# Altium schematic symbol library ERA6ARB332V.SchLib: 6 symbols
Pins are listed as number, name and electrical type; pins without a type are passive.

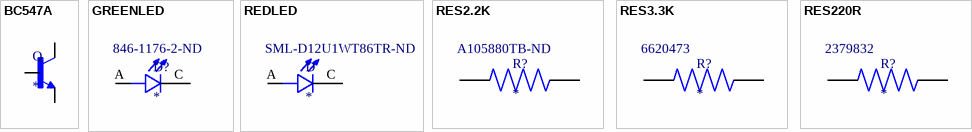
[diagram p0: symbols BC547A to RES220R]

## BC547A
designator Q
Bipolar _BJT_ Transistor NPN 45V 100mA 300MHz 500mW Through Hole TO-92-3; MP: BC547A; MF: ON Semiconductor; Value: *; Package: TO-92 NXP Semiconductors; SnapEDA_Link: https://www.snapeda.com/parts/BC547A/ON%20Semiconductor/view-part/805861/?ref=snap; Price: None; Availability: Unavailable
footprint TO92260P520H877-3
pins: 1 C, 2 B, 3 E

## GREENLED
designator D?  Supplier Part Number 1: 846-1176-2-ND
Green 565nm LED Indication - Discrete 2.2V 0603 (1608 Metric); MF: Rohm; MP: SML-D12FWT86; Check_prices: https://www.snapeda.com/parts/SML-D12FWT86/Rohm/view-part/2753923/?ref=eda; Package: 0603 Rohm; Price: None; Value: *; SnapEDA_Link: https://www.snapeda.com/parts/SML-D12FWT86/Rohm/view-part/2753923/?ref=snap; Availability: Good; Purchase-URL: https://pricing.snapeda.com/search/part/SML-D12FWT86/?ref=eda; Supplier 1: Digi-Key
footprint LED_GREEN
pins: A, C

## REDLED
designator D  Supplier Part Number 1: SML-D12U1WT86TR-ND
Red 620nm LED Indication - Discrete 2.2V 0603 _1608 Metric_; MP: SML-D12U1WT86; MF: Rohm; Package: 0603 Rohm; Price: None; Availability: Unavailable; SnapEDA_Link: https://www.snapeda.com/parts/SML-D12U1WT86/Rohm/view-part/481503/?ref=snap; Value: *; Supplier 1: Digi-Key
footprint LED_RED
pins: A, C

## RES2.2K
designator R?  Supplier Part Number 1: A105880TB-ND
RES 2.2K OHM 0.1% 1/8W 0805; MF: Panasonic; MP: ERA-6APB222V; Value: *; Check_prices: https://www.snapeda.com/parts/ERA-6APB222V/Panasonic/view-part/3718729/?ref=eda; Availability: In Stock; Package: 2012-2 Panasonic; SnapEDA_Link: https://www.snapeda.com/parts/ERA-6APB222V/Panasonic/view-part/3718729/?ref=snap; Price: None; Supplier 1: Digi-Key
footprint RES_2.2K
footprint RES2.2K
pins: 1, 2

## RES3.3K
designator R?  Supplier Part Number 1: 6620473
RES 3.3K OHM 0.1% 1/8W 0805; MF: Panasonic; MP: ERA6ARB332V; Value: *; Check_prices: https://www.snapeda.com/parts/ERA6ARB332V/Panasonic/view-part/5767158/?ref=eda; Availability: In Stock; Package: 2012-2 Panasonic; SnapEDA_Link: https://www.snapeda.com/parts/ERA6ARB332V/Panasonic/view-part/5767158/?ref=snap; Price: None; Supplier 1: RSComponents
footprint RES_3.3K
pins: 1, 2

## RES220R
designator R?  Supplier Part Number 1: 2379832
MP: ERJ-2RHD2200X; Package: None; Price: None; Value: *; Availability: Unavailable; Supplier 1: Farnell
footprint RES_220R
pins: 1, 2